# Altium integrated library TI_Logic_Flip-Flop,Latch,Register.IntLib: 2598 symbols (part 11 of 122)
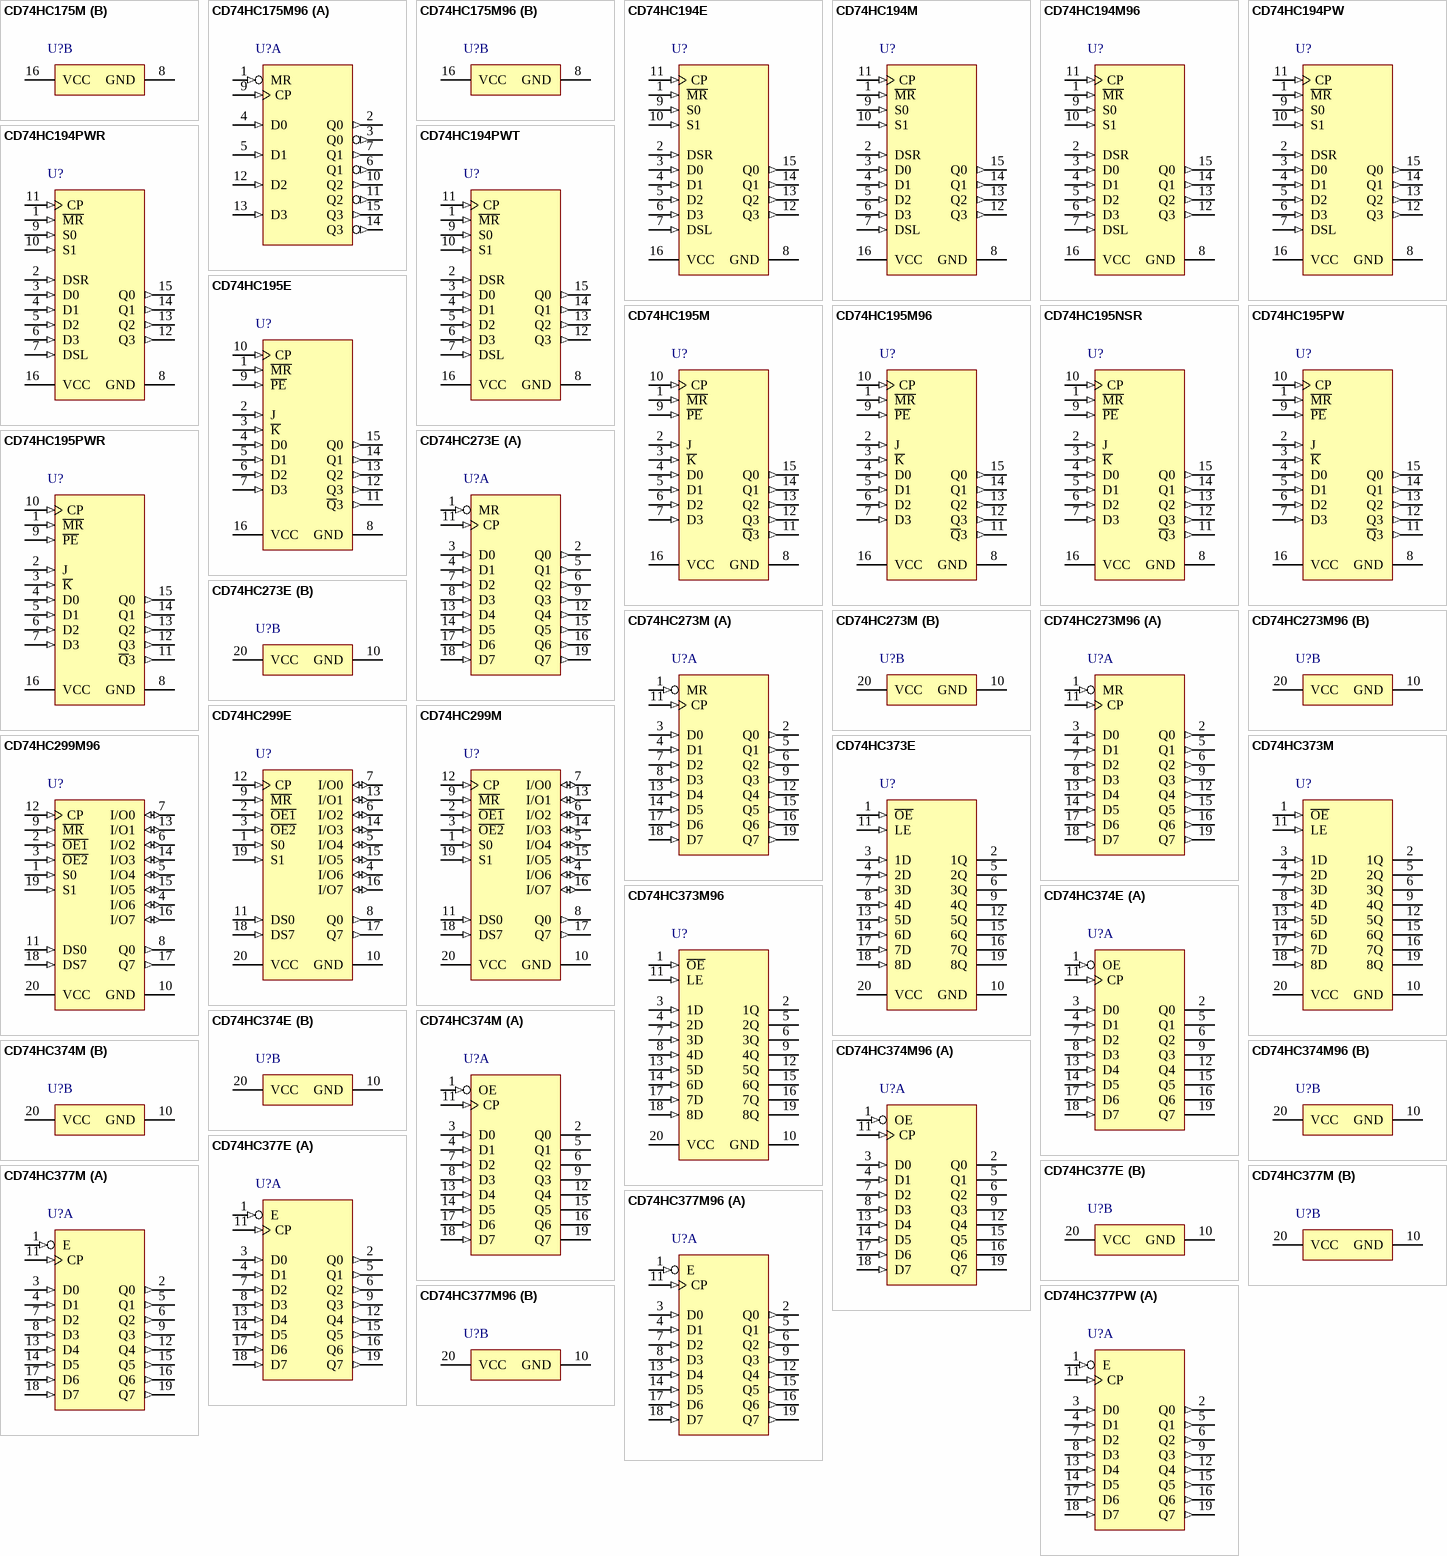
[diagram p149: symbols CD74HC175M to CD74HC377PW]

## CD74HC377M
designator U?
High Speed CMOS Logic Octal D-Type Flip-Flops with Data Enable, DW0020A, TUBE; Generic Part Number: CD74HC377; Manufacturer: Texas Instruments; PartNumber: CD74HC377M; VCC(Min)(V): 2; VCC(Max)(V): 6; ICC @ Nom Voltage(Max)(mA): 0.08; Bits(#): 8; F @ Nom Voltage(Max)(Mhz): 28; Rating: Catalog; Technology Family: HC; Voltage(Nom)(V): 3.3,5; Schmitt Trigger: No; Output Drive (IOL/IOH)(Max)(mA): 5.2/-5.2; Output Logic: Non-inverted; tpd @ Nom Voltage(Max)(ns): 37; DatasheetVersion: SCHS184C; PackageReference: DW0020A; Supplier 1: Digi-Key; Supplier Part Number 1: 296-33077-5-ND; Supplier 2: Farnell; Supplier Part Number 2: 1103166; Supplier 3: Mouser; Supplier Part Number 3: 595-CD74HC377M; Output Type: CMOS; Input Type: CMOS; Operating Temperature Range(C): -55 to 125; 3-State Output: No; Code_JEDEC: MS-013; ComponentLink1Description: Manufacturer URL; ComponentLink1URL: http://www.ti.com/; ComponentLink2Description: Datasheet; ComponentLink2URL: http://www.ti.com/lit/ds/symlink/cd74hc377.pdf; ComponentLink3Description: Package Specification; ComponentLink3URL: http://www.ti.com/lit/ml/mpds173a/mpds173a.pdf
footprint DW0020A_N (SOIC, 20-Leads, Body 13x7.6mm, Pitch 1.27mm, IPC Medium Density)
footprint DW0020A_M (SOIC, 20-Leads, Body 13x7.6mm, Pitch 1.27mm, IPC Low Density)
footprint DW0020A_L (SOIC, 20-Leads, Body 13x7.6mm, Pitch 1.27mm, IPC High Density)
part A pins: 1 E (in), 2 Q0 (out), 3 D0 (in), 4 D1 (in), 5 Q1 (out), 6 Q2 (out), 7 D2 (in), 8 D3 (in), 9 Q3 (out), 11 CP (in), 12 Q4 (out), 13 D4 (in), 14 D5 (in), 15 Q5 (out), 16 Q6 (out), 17 D6 (in), 18 D7 (in), 19 Q7 (out)
part B pins: 10 GND (power), 20 VCC (power)

## CD74HC377M96
designator U?
High Speed CMOS Logic Octal D-Type Flip-Flops with Data Enable, DW0020A, LARGE T&R; Generic Part Number: CD74HC377; Manufacturer: Texas Instruments; PartNumber: CD74HC377M96; VCC(Min)(V): 2; VCC(Max)(V): 6; ICC @ Nom Voltage(Max)(mA): 0.08; Bits(#): 8; F @ Nom Voltage(Max)(Mhz): 28; Rating: Catalog; Technology Family: HC; Voltage(Nom)(V): 3.3,5; Schmitt Trigger: No; Output Drive (IOL/IOH)(Max)(mA): 5.2/-5.2; Output Logic: Non-inverted; tpd @ Nom Voltage(Max)(ns): 37; DatasheetVersion: SCHS184C; PackageReference: DW0020A; Supplier 1: Digi-Key; Supplier Part Number 1: 296-31581-2-ND; Supplier 2: Digi-Key; Supplier Part Number 2: 296-31581-1-ND; Supplier 3: Digi-Key; Supplier Part Number 3: 296-31581-6-ND; Supplier 4: Mouser; Supplier Part Number 4: 595-CD74HC377M96; Output Type: CMOS; Input Type: CMOS; Operating Temperature Range(C): -55 to 125; 3-State Output: No; Code_JEDEC: MS-013; ComponentLink1Description: Manufacturer URL; ComponentLink1URL: http://www.ti.com/; ComponentLink2Description: Datasheet; ComponentLink2URL: http://www.ti.com/lit/ds/symlink/cd74hc377.pdf; ComponentLink3Description: Package Specification; ComponentLink3URL: http://www.ti.com/lit/ml/mpds173a/mpds173a.pdf
footprint DW0020A_N (SOIC, 20-Leads, Body 13x7.6mm, Pitch 1.27mm, IPC Medium Density)
footprint DW0020A_M (SOIC, 20-Leads, Body 13x7.6mm, Pitch 1.27mm, IPC Low Density)
footprint DW0020A_L (SOIC, 20-Leads, Body 13x7.6mm, Pitch 1.27mm, IPC High Density)
part A pins: 1 E (in), 2 Q0 (out), 3 D0 (in), 4 D1 (in), 5 Q1 (out), 6 Q2 (out), 7 D2 (in), 8 D3 (in), 9 Q3 (out), 11 CP (in), 12 Q4 (out), 13 D4 (in), 14 D5 (in), 15 Q5 (out), 16 Q6 (out), 17 D6 (in), 18 D7 (in), 19 Q7 (out)
part B pins: 10 GND (power), 20 VCC (power)

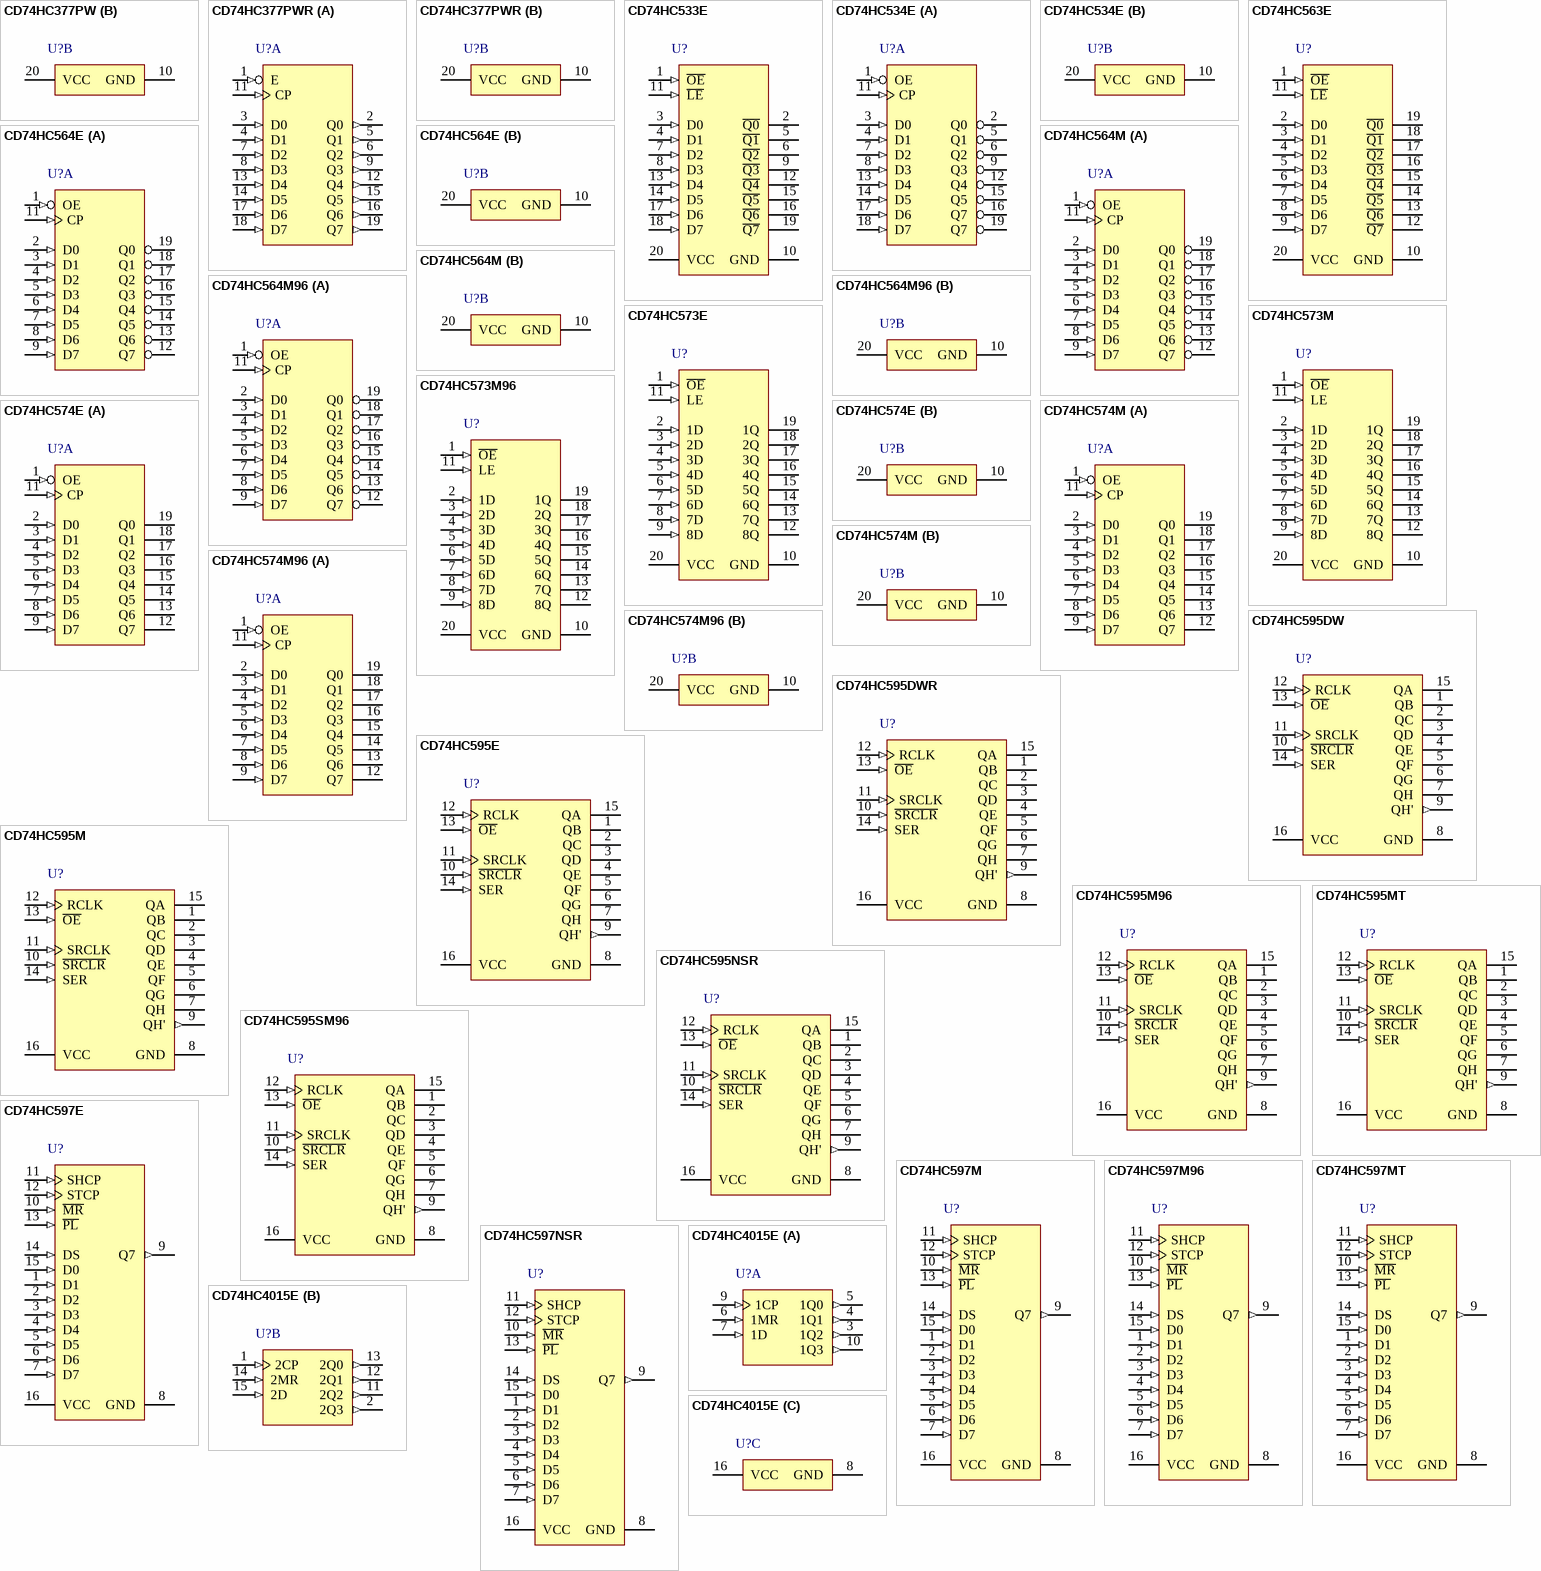
[diagram p15: symbols CD74HC377PW to CD74HC4015E]

## CD74HC377PW
designator U?
High Speed CMOS Logic Octal D-Type Flip-Flops with Data Enable, PW0020A, TUBE; Generic Part Number: CD74HC377; Manufacturer: Texas Instruments; PartNumber: CD74HC377PW; VCC(Min)(V): 2; VCC(Max)(V): 6; ICC @ Nom Voltage(Max)(mA): 0.08; Bits(#): 8; F @ Nom Voltage(Max)(Mhz): 28; Rating: Catalog; Technology Family: HC; Voltage(Nom)(V): 3.3,5; Schmitt Trigger: No; Output Drive (IOL/IOH)(Max)(mA): 5.2/-5.2; Output Logic: Non-inverted; tpd @ Nom Voltage(Max)(ns): 37; DatasheetVersion: SCHS184C; PackageReference: PW0020A; Supplier 1: Digi-Key; Supplier Part Number 1: CD74HC377PW-ND; Supplier 2: Farnell; Supplier Part Number 2: 1752838; Supplier 3: Mouser; Supplier Part Number 3: 595-CD74HC377PW; Output Type: CMOS; Input Type: CMOS; Operating Temperature Range(C): -55 to 125; 3-State Output: No; Code_JEDEC: MO-153; ComponentLink1Description: Manufacturer URL; ComponentLink1URL: http://www.ti.com/; ComponentLink2Description: Datasheet; ComponentLink2URL: http://www.ti.com/lit/ds/symlink/cd74hc377.pdf; ComponentLink3Description: Package Specification; ComponentLink3URL: http://www.ti.com/lit/ml/mpds362/mpds362.pdf
footprint PW0020A_N (SOP, 20-Leads, Body 6.6x4.5mm, Pitch 0.65mm, IPC Medium Density)
footprint PW0020A_M (SOP, 20-Leads, Body 6.6x4.5mm, Pitch 0.65mm, IPC Low Density)
footprint PW0020A_L (SOP, 20-Leads, Body 6.6x4.5mm, Pitch 0.65mm, IPC High Density)
part A pins: 1 E (in), 2 Q0 (out), 3 D0 (in), 4 D1 (in), 5 Q1 (out), 6 Q2 (out), 7 D2 (in), 8 D3 (in), 9 Q3 (out), 11 CP (in), 12 Q4 (out), 13 D4 (in), 14 D5 (in), 15 Q5 (out), 16 Q6 (out), 17 D6 (in), 18 D7 (in), 19 Q7 (out)
part B pins: 10 GND (power), 20 VCC (power)

## CD74HC377PWR
designator U?
High Speed CMOS Logic Octal D-Type Flip-Flops with Data Enable, PW0020A, LARGE T&R; Generic Part Number: CD74HC377; Manufacturer: Texas Instruments; PartNumber: CD74HC377PWR; VCC(Min)(V): 2; VCC(Max)(V): 6; ICC @ Nom Voltage(Max)(mA): 0.08; Bits(#): 8; F @ Nom Voltage(Max)(Mhz): 28; Rating: Catalog; Technology Family: HC; Voltage(Nom)(V): 3.3,5; Schmitt Trigger: No; Output Drive (IOL/IOH)(Max)(mA): 5.2/-5.2; Output Logic: Non-inverted; tpd @ Nom Voltage(Max)(ns): 37; DatasheetVersion: SCHS184C; PackageReference: PW0020A; Supplier 1: Digi-Key; Supplier Part Number 1: 296-31582-2-ND; Supplier 2: Digi-Key; Supplier Part Number 2: 296-31582-1-ND; Supplier 3: Digi-Key; Supplier Part Number 3: 296-31582-6-ND; Supplier 4: Mouser; Supplier Part Number 4: 595-CD74HC377PWR; Output Type: CMOS; Input Type: CMOS; Operating Temperature Range(C): -55 to 125; 3-State Output: No; Code_JEDEC: MO-153; ComponentLink1Description: Manufacturer URL; ComponentLink1URL: http://www.ti.com/; ComponentLink2Description: Datasheet; ComponentLink2URL: http://www.ti.com/lit/ds/symlink/cd74hc377.pdf; ComponentLink3Description: Package Specification; ComponentLink3URL: http://www.ti.com/lit/ml/mpds362/mpds362.pdf
footprint PW0020A_N (SOP, 20-Leads, Body 6.6x4.5mm, Pitch 0.65mm, IPC Medium Density)
footprint PW0020A_M (SOP, 20-Leads, Body 6.6x4.5mm, Pitch 0.65mm, IPC Low Density)
footprint PW0020A_L (SOP, 20-Leads, Body 6.6x4.5mm, Pitch 0.65mm, IPC High Density)
part A pins: 1 E (in), 2 Q0 (out), 3 D0 (in), 4 D1 (in), 5 Q1 (out), 6 Q2 (out), 7 D2 (in), 8 D3 (in), 9 Q3 (out), 11 CP (in), 12 Q4 (out), 13 D4 (in), 14 D5 (in), 15 Q5 (out), 16 Q6 (out), 17 D6 (in), 18 D7 (in), 19 Q7 (out)
part B pins: 10 GND (power), 20 VCC (power)

## CD74HC533E
designator U?
High Speed CMOS Logic Octal Inverting Transparent Latches with 3-State Outputs, N0020A, TUBE; Generic Part Number: CD74HC533; Manufacturer: Texas Instruments; PartNumber: CD74HC533E; VCC(Min)(V): 2; VCC(Max)(V): 6; ICC @ Nom Voltage(Max)(mA): 0.08; Bits(#): 8; F @ Nom Voltage(Max)(Mhz): 28; Rating: Catalog; Technology Family: HC; Schmitt Trigger: No; Output Drive (IOL/IOH)(Max)(mA): 7.8/-7.8; Output Logic: Inverted; 3-State Output: Yes; tpd @ Nom Voltage(Max)(ns): 35; DatasheetVersion: SCHS187C; PackageReference: N0020A; Supplier 1: Digi-Key; Supplier Part Number 1: 296-33105-5-ND; Supplier 2: Newark; Supplier Part Number 2: 06F3146; Supplier 3: Mouser; Supplier Part Number 3: 595-CD74HC533E; Output Type: CMOS; Input Type: CMOS; Operating Temperature Range(C): -55 to 125; Voltage(Nom)(V): 6; Code_JEDEC: MS-001; ComponentLink1Description: Manufacturer URL; ComponentLink1URL: http://www.ti.com/; ComponentLink2Description: Datasheet; ComponentLink2URL: http://www.ti.com/lit/ds/symlink/cd74hc533.pdf; ComponentLink3Description: Package Specification; ComponentLink3URL: http://www.ti.com/lit/ml/mpdi002c/mpdi002c.pdf
footprint N0020A (DIP, 20-Leads, Body 26.9x6.6mm, Pitch 2.54mm)
pins: 1 ~{OE} (in), 2 ~{Q0} (hiz), 3 D0 (in), 4 D1 (in), 5 ~{Q1} (hiz), 6 ~{Q2} (hiz), 7 D2 (in), 8 D3 (in), 9 ~{Q3} (hiz), 10 GND (power), 11 ~{LE} (in), 12 ~{Q4} (hiz), 13 D4 (in), 14 D5 (in), 15 ~{Q5} (hiz), 16 ~{Q6} (hiz), 17 D6 (in), 18 D7 (in), 19 ~{Q7} (hiz), 20 VCC (power)

## CD74HC534E
designator U?
High Speed CMOS Logic Octal Positive-Edge-Triggered Inverting D-Type Flip-Flops with 3-State Outputs, N0020A, TUBE; Generic Part Number: CD74HC534; Manufacturer: Texas Instruments; PartNumber: CD74HC534E; VCC(Min)(V): 2; VCC(Max)(V): 6; ICC @ Nom Voltage(Max)(mA): 0.08; Bits(#): 8; F @ Nom Voltage(Max)(Mhz): 28; Rating: Catalog; Technology Family: HC; Voltage(Nom)(V): 3.3,5; Schmitt Trigger: No; Output Drive (IOL/IOH)(Max)(mA): 7.8/-7.8; Output Logic: Inverted; 3-State Output: Yes; tpd @ Nom Voltage(Max)(ns): 35; DatasheetVersion: SCHS188C; PackageReference: N0020A; Supplier 1: Digi-Key; Supplier Part Number 1: 296-33106-5-ND; Supplier 2: Mouser; Supplier Part Number 2: 595-CD74HC534E; Output Type: CMOS; Input Type: CMOS; Operating Temperature Range(C): -55 to 125; Code_JEDEC: MS-001; ComponentLink1Description: Manufacturer URL; ComponentLink1URL: http://www.ti.com/; ComponentLink2Description: Datasheet; ComponentLink2URL: http://www.ti.com/lit/ds/symlink/cd74hc534.pdf; ComponentLink3Description: Package Specification; ComponentLink3URL: http://www.ti.com/lit/ml/mpdi002c/mpdi002c.pdf
footprint N0020A (DIP, 20-Leads, Body 26.9x6.6mm, Pitch 2.54mm)
part A pins: 1 OE (in), 2 Q0 (hiz), 3 D0 (in), 4 D1 (in), 5 Q1 (hiz), 6 Q2 (hiz), 7 D2 (in), 8 D3 (in), 9 Q3 (hiz), 11 CP (in), 12 Q4 (hiz), 13 D4 (in), 14 D5 (in), 15 Q5 (hiz), 16 Q7 (hiz), 17 D6 (in), 18 D7 (in), 19 Q7 (hiz)
part B pins: 10 GND (power), 20 VCC (power)

## CD74HC563E
designator U?
High Speed CMOS Logic Octal Inverting Transparent Latches with 3-State Outputs, N0020A, TUBE; Generic Part Number: CD74HC563; Manufacturer: Texas Instruments; PartNumber: CD74HC563E; VCC(Min)(V): 2; VCC(Max)(V): 6; ICC @ Nom Voltage(Max)(mA): 0.08; Bits(#): 8; F @ Nom Voltage(Max)(Mhz): 28; Rating: Catalog; Technology Family: HC; Schmitt Trigger: No; Output Drive (IOL/IOH)(Max)(mA): 7.8/-7.8; Output Logic: Inverted; 3-State Output: Yes; tpd @ Nom Voltage(Max)(ns): 37; DatasheetVersion: SCHS187C; PackageReference: N0020A; Supplier 1: Digi-Key; Supplier Part Number 1: 296-33109-5-ND; Supplier 2: Newark; Supplier Part Number 2: 06F3153; Supplier 3: Mouser; Supplier Part Number 3: 595-CD74HC563E; Output Type: CMOS; Input Type: CMOS; Operating Temperature Range(C): -55 to 125; Voltage(Nom)(V): 6; Code_JEDEC: MS-001; ComponentLink1Description: Manufacturer URL; ComponentLink1URL: http://www.ti.com/; ComponentLink2Description: Datasheet; ComponentLink2URL: http://www.ti.com/lit/ds/symlink/cd74hc563.pdf; ComponentLink3Description: Package Specification; ComponentLink3URL: http://www.ti.com/lit/ml/mpdi002c/mpdi002c.pdf
footprint N0020A (DIP, 20-Leads, Body 26.9x6.6mm, Pitch 2.54mm)
pins: 1 ~{OE} (in), 2 D0 (in), 3 D1 (in), 4 D2 (in), 5 D3 (in), 6 D4 (in), 7 D5 (in), 8 D6 (in), 9 D7 (in), 10 GND (power), 11 ~{LE} (in), 12 ~{Q7} (hiz), 13 ~{Q6} (hiz), 14 ~{Q5} (hiz), 15 ~{Q4} (hiz), 16 ~{Q3} (hiz), 17 ~{Q2} (hiz), 18 ~{Q1} (hiz), 19 ~{Q0} (hiz), 20 VCC (power)

## CD74HC564E
designator U?
High Speed CMOS Logic Octal Positive-Edge-Triggered Inverting D-Type Flip-Flops with 3-State Outputs, N0020A, TUBE; Generic Part Number: CD74HC564; Manufacturer: Texas Instruments; PartNumber: CD74HC564E; VCC(Min)(V): 2; VCC(Max)(V): 6; ICC @ Nom Voltage(Max)(mA): 0.08; Bits(#): 8; F @ Nom Voltage(Max)(Mhz): 28; Rating: Catalog; Technology Family: HC; Voltage(Nom)(V): 3.3,5; Schmitt Trigger: No; Output Drive (IOL/IOH)(Max)(mA): 7.8/-7.8; Output Logic: Inverted; 3-State Output: Yes; tpd @ Nom Voltage(Max)(ns): 35; DatasheetVersion: SCHS188C; PackageReference: N0020A; Supplier 1: Digi-Key; Supplier Part Number 1: 296-26009-5-ND; Supplier 2: Newark; Supplier Part Number 2: 06F3154; Supplier 3: Mouser; Supplier Part Number 3: 595-CD74HC564E; Output Type: CMOS; Input Type: CMOS; Operating Temperature Range(C): -55 to 125; Code_JEDEC: MS-001; ComponentLink1Description: Manufacturer URL; ComponentLink1URL: http://www.ti.com/; ComponentLink2Description: Datasheet; ComponentLink2URL: http://www.ti.com/lit/ds/symlink/cd74hc564.pdf; ComponentLink3Description: Package Specification; ComponentLink3URL: http://www.ti.com/lit/ml/mpdi002c/mpdi002c.pdf
footprint N0020A (DIP, 20-Leads, Body 26.9x6.6mm, Pitch 2.54mm)
part A pins: 1 OE (in), 2 D0 (in), 3 D1 (in), 4 D2 (in), 5 D3 (in), 6 D4 (in), 7 D5 (in), 8 D6 (in), 9 D7 (in), 11 CP (in), 12 Q7 (hiz), 13 Q6 (hiz), 14 Q5 (hiz), 15 Q4 (hiz), 16 Q3 (hiz), 17 Q2 (hiz), 18 Q1 (hiz), 19 Q0 (hiz)
part B pins: 10 GND (power), 20 VCC (power)

## CD74HC564M
designator U?
High Speed CMOS Logic Octal Positive-Edge-Triggered Inverting D-Type Flip-Flops with 3-State Outputs, DW0020A, TUBE; Generic Part Number: CD74HC564; Manufacturer: Texas Instruments; PartNumber: CD74HC564M; VCC(Min)(V): 2; VCC(Max)(V): 6; ICC @ Nom Voltage(Max)(mA): 0.08; Bits(#): 8; F @ Nom Voltage(Max)(Mhz): 28; Rating: Catalog; Technology Family: HC; Voltage(Nom)(V): 3.3,5; Schmitt Trigger: No; Output Drive (IOL/IOH)(Max)(mA): 7.8/-7.8; Output Logic: Inverted; 3-State Output: Yes; tpd @ Nom Voltage(Max)(ns): 35; DatasheetVersion: SCHS188C; PackageReference: DW0020A; Supplier 1: Digi-Key; Supplier Part Number 1: 296-33110-5-ND; Supplier 2: Newark; Supplier Part Number 2: 66F5426; Supplier 3: Mouser; Supplier Part Number 3: 595-CD74HC564M; Output Type: CMOS; Input Type: CMOS; Operating Temperature Range(C): -55 to 125; Code_JEDEC: MS-013; ComponentLink1Description: Manufacturer URL; ComponentLink1URL: http://www.ti.com/; ComponentLink2Description: Datasheet; ComponentLink2URL: http://www.ti.com/lit/ds/symlink/cd74hc564.pdf; ComponentLink3Description: Package Specification; ComponentLink3URL: http://www.ti.com/lit/ml/mpds173a/mpds173a.pdf
footprint DW0020A_N (SOIC, 20-Leads, Body 13x7.6mm, Pitch 1.27mm, IPC Medium Density)
footprint DW0020A_M (SOIC, 20-Leads, Body 13x7.6mm, Pitch 1.27mm, IPC Low Density)
footprint DW0020A_L (SOIC, 20-Leads, Body 13x7.6mm, Pitch 1.27mm, IPC High Density)
part A pins: 1 OE (in), 2 D0 (in), 3 D1 (in), 4 D2 (in), 5 D3 (in), 6 D4 (in), 7 D5 (in), 8 D6 (in), 9 D7 (in), 11 CP (in), 12 Q7 (hiz), 13 Q6 (hiz), 14 Q5 (hiz), 15 Q4 (hiz), 16 Q3 (hiz), 17 Q2 (hiz), 18 Q1 (hiz), 19 Q0 (hiz)
part B pins: 10 GND (power), 20 VCC (power)

## CD74HC564M96
designator U?
High Speed CMOS Logic Octal Positive-Edge-Triggered Inverting D-Type Flip-Flops with 3-State Outputs, DW0020A, LARGE T&R; Generic Part Number: CD74HC564; Manufacturer: Texas Instruments; PartNumber: CD74HC564M96; VCC(Min)(V): 2; VCC(Max)(V): 6; ICC @ Nom Voltage(Max)(mA): 0.08; Bits(#): 8; F @ Nom Voltage(Max)(Mhz): 28; Rating: Catalog; Technology Family: HC; Voltage(Nom)(V): 3.3,5; Schmitt Trigger: No; Output Drive (IOL/IOH)(Max)(mA): 7.8/-7.8; Output Logic: Inverted; 3-State Output: Yes; tpd @ Nom Voltage(Max)(ns): 35; DatasheetVersion: SCHS188C; PackageReference: DW0020A; Supplier 1: Digi-Key; Supplier Part Number 1: 296-31600-2-ND; Supplier 2: Digi-Key; Supplier Part Number 2: 296-31600-1-ND; Supplier 3: Digi-Key; Supplier Part Number 3: 296-31600-6-ND; Supplier 4: Mouser; Supplier Part Number 4: 595-CD74HC564M96; Output Type: CMOS; Input Type: CMOS; Operating Temperature Range(C): -55 to 125; Code_JEDEC: MS-013; ComponentLink1Description: Manufacturer URL; ComponentLink1URL: http://www.ti.com/; ComponentLink2Description: Datasheet; ComponentLink2URL: http://www.ti.com/lit/ds/symlink/cd74hc564.pdf; ComponentLink3Description: Package Specification; ComponentLink3URL: http://www.ti.com/lit/ml/mpds173a/mpds173a.pdf
footprint DW0020A_N (SOIC, 20-Leads, Body 13x7.6mm, Pitch 1.27mm, IPC Medium Density)
footprint DW0020A_M (SOIC, 20-Leads, Body 13x7.6mm, Pitch 1.27mm, IPC Low Density)
footprint DW0020A_L (SOIC, 20-Leads, Body 13x7.6mm, Pitch 1.27mm, IPC High Density)
part A pins: 1 OE (in), 2 D0 (in), 3 D1 (in), 4 D2 (in), 5 D3 (in), 6 D4 (in), 7 D5 (in), 8 D6 (in), 9 D7 (in), 11 CP (in), 12 Q7 (hiz), 13 Q6 (hiz), 14 Q5 (hiz), 15 Q4 (hiz), 16 Q3 (hiz), 17 Q2 (hiz), 18 Q1 (hiz), 19 Q0 (hiz)
part B pins: 10 GND (power), 20 VCC (power)

## CD74HC573E
designator U?
High Speed CMOS Logic Octal Transparent Latches with 3-State Outputs, N0020A, TUBE; Generic Part Number: CD74HC573; Manufacturer: Texas Instruments; PartNumber: CD74HC573E; VCC(Min)(V): 2; VCC(Max)(V): 6; ICC @ Nom Voltage(Max)(mA): 0.08; Bits(#): 8; F @ Nom Voltage(Max)(Mhz): 28; Rating: Catalog; Technology Family: HC; Schmitt Trigger: No; Output Drive (IOL/IOH)(Max)(mA): 7.8/-7.8; Output Logic: Inverted; 3-State Output: Yes; tpd @ Nom Voltage(Max)(ns): 37; DatasheetVersion: SCLS454A; PackageReference: N0020A; Supplier 1: Digi-Key; Supplier Part Number 1: 296-12815-5-ND; Supplier 2: Farnell; Supplier Part Number 2: 2407136; Supplier 3: Newark; Supplier Part Number 3: 67K0157; Supplier 4: Mouser; Supplier Part Number 4: 595-CD74HC573E; Output Type: CMOS; Input Type: CMOS; Operating Temperature Range(C): -55 to 125; Voltage(Nom)(V): 6; Code_JEDEC: MS-001; ComponentLink1Description: Manufacturer URL; ComponentLink1URL: http://www.ti.com/; ComponentLink2Description: Datasheet; ComponentLink2URL: http://www.ti.com/lit/ds/symlink/cd74hc573.pdf; ComponentLink3Description: Package Specification; ComponentLink3URL: http://www.ti.com/lit/ml/mpdi002c/mpdi002c.pdf
footprint N0020A (DIP, 20-Leads, Body 26.9x6.6mm, Pitch 2.54mm)
pins: 1 ~{OE} (in), 2 1D (in), 3 2D (in), 4 3D (in), 5 4D (in), 6 5D (in), 7 6D (in), 8 7D (in), 9 8D (in), 10 GND (power), 11 LE (in), 12 8Q (hiz), 13 7Q (hiz), 14 6Q (hiz), 15 5Q (hiz), 16 4Q (hiz), 17 3Q (hiz), 18 2Q (hiz), 19 1Q (hiz), 20 VCC (power)

## CD74HC573M
designator U?
High Speed CMOS Logic Octal Transparent Latches with 3-State Outputs, DW0020A, TUBE; Generic Part Number: CD74HC573; Manufacturer: Texas Instruments; PartNumber: CD74HC573M; VCC(Min)(V): 2; VCC(Max)(V): 6; ICC @ Nom Voltage(Max)(mA): 0.08; Bits(#): 8; F @ Nom Voltage(Max)(Mhz): 28; Rating: Catalog; Technology Family: HC; Schmitt Trigger: No; Output Drive (IOL/IOH)(Max)(mA): 7.8/-7.8; Output Logic: Inverted; 3-State Output: Yes; tpd @ Nom Voltage(Max)(ns): 37; DatasheetVersion: SCLS454A; PackageReference: DW0020A; Supplier 1: Digi-Key; Supplier Part Number 1: 296-26010-5-ND; Supplier 2: Farnell; Supplier Part Number 2: 9589384; Supplier 3: Newark; Supplier Part Number 3: 34K2418; Supplier 4: Mouser; Supplier Part Number 4: 595-CD74HC573M; Output Type: CMOS; Input Type: CMOS; Operating Temperature Range(C): -55 to 125; Voltage(Nom)(V): 6; Code_JEDEC: MS-013; ComponentLink1Description: Manufacturer URL; ComponentLink1URL: http://www.ti.com/; ComponentLink2Description: Datasheet; ComponentLink2URL: http://www.ti.com/lit/ds/symlink/cd74hc573.pdf; ComponentLink3Description: Package Specification; ComponentLink3URL: http://www.ti.com/lit/ml/mpds173a/mpds173a.pdf
footprint DW0020A_N (SOIC, 20-Leads, Body 13x7.6mm, Pitch 1.27mm, IPC Medium Density)
footprint DW0020A_M (SOIC, 20-Leads, Body 13x7.6mm, Pitch 1.27mm, IPC Low Density)
footprint DW0020A_L (SOIC, 20-Leads, Body 13x7.6mm, Pitch 1.27mm, IPC High Density)
pins: 1 ~{OE} (in), 2 1D (in), 3 2D (in), 4 3D (in), 5 4D (in), 6 5D (in), 7 6D (in), 8 7D (in), 9 8D (in), 10 GND (power), 11 LE (in), 12 8Q (hiz), 13 7Q (hiz), 14 6Q (hiz), 15 5Q (hiz), 16 4Q (hiz), 17 3Q (hiz), 18 2Q (hiz), 19 1Q (hiz), 20 VCC (power)

## CD74HC573M96
designator U?
High Speed CMOS Logic Octal Transparent Latches with 3-State Outputs, DW0020A, LARGE T&R; Generic Part Number: CD74HC573; Manufacturer: Texas Instruments; PartNumber: CD74HC573M96; VCC(Min)(V): 2; VCC(Max)(V): 6; ICC @ Nom Voltage(Max)(mA): 0.08; Bits(#): 8; F @ Nom Voltage(Max)(Mhz): 28; Rating: Catalog; Technology Family: HC; Schmitt Trigger: No; Output Drive (IOL/IOH)(Max)(mA): 7.8/-7.8; Output Logic: Inverted; 3-State Output: Yes; tpd @ Nom Voltage(Max)(ns): 37; DatasheetVersion: SCLS454A; PackageReference: DW0020A; Supplier 1: Digi-Key; Supplier Part Number 1: 296-12816-2-ND; Supplier 2: Digi-Key; Supplier Part Number 2: 296-12816-1-ND; Supplier 3: Digi-Key; Supplier Part Number 3: 296-12816-6-ND; Supplier 4: Farnell; Supplier Part Number 4: 2407137; Supplier 5: Farnell; Supplier Part Number 5: 2407137RL; Supplier 6: Newark; Supplier Part Number 6: 83X7080; Supplier 7: Mouser; Supplier Part Number 7: 595-CD74HC573M96; Output Type: CMOS; Input Type: CMOS; Operating Temperature Range(C): -55 to 125; Voltage(Nom)(V): 6; Code_JEDEC: MS-013; ComponentLink1Description: Manufacturer URL; ComponentLink1URL: http://www.ti.com/; ComponentLink2Description: Datasheet; ComponentLink2URL: http://www.ti.com/lit/ds/symlink/cd74hc573.pdf; ComponentLink3Description: Package Specification; ComponentLink3URL: http://www.ti.com/lit/ml/mpds173a/mpds173a.pdf
footprint DW0020A_N (SOIC, 20-Leads, Body 13x7.6mm, Pitch 1.27mm, IPC Medium Density)
footprint DW0020A_M (SOIC, 20-Leads, Body 13x7.6mm, Pitch 1.27mm, IPC Low Density)
footprint DW0020A_L (SOIC, 20-Leads, Body 13x7.6mm, Pitch 1.27mm, IPC High Density)
pins: 1 ~{OE} (in), 2 1D (in), 3 2D (in), 4 3D (in), 5 4D (in), 6 5D (in), 7 6D (in), 8 7D (in), 9 8D (in), 10 GND (power), 11 LE (in), 12 8Q (hiz), 13 7Q (hiz), 14 6Q (hiz), 15 5Q (hiz), 16 4Q (hiz), 17 3Q (hiz), 18 2Q (hiz), 19 1Q (hiz), 20 VCC (power)

## CD74HC574E
designator U?
High Speed CMOS Logic Octal Positive-Edge-Triggered D-Type Flip-Flops with 3-State Outputs, N0020A, TUBE; Generic Part Number: CD74HC574; Manufacturer: Texas Instruments; PartNumber: CD74HC574E; VCC(Min)(V): 2; VCC(Max)(V): 6; ICC @ Nom Voltage(Max)(mA): 0.08; Bits(#): 8; F @ Nom Voltage(Max)(Mhz): 28; Rating: Catalog; Technology Family: HC; Voltage(Nom)(V): 3.3,5; Schmitt Trigger: No; Output Drive (IOL/IOH)(Max)(mA): 7.8/-7.8; Output Logic: Non-inverted; 3-State Output: Yes; tpd @ Nom Voltage(Max)(ns): 38; DatasheetVersion: SCHS183C; PackageReference: N0020A; Supplier 1: Digi-Key; Supplier Part Number 1: 296-12817-5-ND; Supplier 2: Farnell; Supplier Part Number 2: 1739845; Supplier 3: Newark; Supplier Part Number 3: 67K0158; Supplier 4: Mouser; Supplier Part Number 4: 595-CD74HC574E; Output Type: CMOS; Input Type: CMOS; Operating Temperature Range(C): -55 to 125; Code_JEDEC: MS-001; ComponentLink1Description: Manufacturer URL; ComponentLink1URL: http://www.ti.com/; ComponentLink2Description: Datasheet; ComponentLink2URL: http://www.ti.com/lit/ds/symlink/cd74hc574.pdf; ComponentLink3Description: Package Specification; ComponentLink3URL: http://www.ti.com/lit/ml/mpdi002c/mpdi002c.pdf
footprint N0020A (DIP, 20-Leads, Body 26.9x6.6mm, Pitch 2.54mm)
part A pins: 1 OE (in), 2 D0 (in), 3 D1 (in), 4 D2 (in), 5 D3 (in), 6 D4 (in), 7 D5 (in), 8 D6 (in), 9 D7 (in), 11 CP (in), 12 Q7 (hiz), 13 Q6 (hiz), 14 Q5 (hiz), 15 Q4 (hiz), 16 Q3 (hiz), 17 Q2 (hiz), 18 Q1 (hiz), 19 Q0 (hiz)
part B pins: 10 GND (power), 20 VCC (power)

## CD74HC574M
designator U?
High Speed CMOS Logic Octal Positive-Edge-Triggered D-Type Flip-Flops with 3-State Outputs, DW0020A, TUBE; Generic Part Number: CD74HC574; Manufacturer: Texas Instruments; PartNumber: CD74HC574M; VCC(Min)(V): 2; VCC(Max)(V): 6; ICC @ Nom Voltage(Max)(mA): 0.08; Bits(#): 8; F @ Nom Voltage(Max)(Mhz): 28; Rating: Catalog; Technology Family: HC; Voltage(Nom)(V): 3.3,5; Schmitt Trigger: No; Output Drive (IOL/IOH)(Max)(mA): 7.8/-7.8; Output Logic: Non-inverted; 3-State Output: Yes; tpd @ Nom Voltage(Max)(ns): 38; DatasheetVersion: SCHS183C; PackageReference: DW0020A; Supplier 1: Digi-Key; Supplier Part Number 1: 296-12818-5-ND; Supplier 2: Farnell; Supplier Part Number 2: 1103174; Supplier 3: Newark; Supplier Part Number 3: 25M8644; Supplier 4: Mouser; Supplier Part Number 4: 595-CD74HC574M; Output Type: CMOS; Input Type: CMOS; Operating Temperature Range(C): -55 to 125; Code_JEDEC: MS-013; ComponentLink1Description: Manufacturer URL; ComponentLink1URL: http://www.ti.com/; ComponentLink2Description: Datasheet; ComponentLink2URL: http://www.ti.com/lit/ds/symlink/cd74hc574.pdf; ComponentLink3Description: Package Specification; ComponentLink3URL: http://www.ti.com/lit/ml/mpds173a/mpds173a.pdf
footprint DW0020A_N (SOIC, 20-Leads, Body 13x7.6mm, Pitch 1.27mm, IPC Medium Density)
footprint DW0020A_M (SOIC, 20-Leads, Body 13x7.6mm, Pitch 1.27mm, IPC Low Density)
footprint DW0020A_L (SOIC, 20-Leads, Body 13x7.6mm, Pitch 1.27mm, IPC High Density)
part A pins: 1 OE (in), 2 D0 (in), 3 D1 (in), 4 D2 (in), 5 D3 (in), 6 D4 (in), 7 D5 (in), 8 D6 (in), 9 D7 (in), 11 CP (in), 12 Q7 (hiz), 13 Q6 (hiz), 14 Q5 (hiz), 15 Q4 (hiz), 16 Q3 (hiz), 17 Q2 (hiz), 18 Q1 (hiz), 19 Q0 (hiz)
part B pins: 10 GND (power), 20 VCC (power)

## CD74HC574M96
designator U?
High Speed CMOS Logic Octal Positive-Edge-Triggered D-Type Flip-Flops with 3-State Outputs, DW0020A, LARGE T&R; Generic Part Number: CD74HC574; Manufacturer: Texas Instruments; PartNumber: CD74HC574M96; VCC(Min)(V): 2; VCC(Max)(V): 6; ICC @ Nom Voltage(Max)(mA): 0.08; Bits(#): 8; F @ Nom Voltage(Max)(Mhz): 28; Rating: Catalog; Technology Family: HC; Voltage(Nom)(V): 3.3,5; Schmitt Trigger: No; Output Drive (IOL/IOH)(Max)(mA): 7.8/-7.8; Output Logic: Non-inverted; 3-State Output: Yes; tpd @ Nom Voltage(Max)(ns): 38; DatasheetVersion: SCHS183C; PackageReference: DW0020A; Supplier 1: Digi-Key; Supplier Part Number 1: 296-31601-2-ND; Supplier 2: Digi-Key; Supplier Part Number 2: 296-31601-1-ND; Supplier 3: Digi-Key; Supplier Part Number 3: 296-31601-6-ND; Supplier 4: Newark; Supplier Part Number 4: 05B6174; Supplier 5: Mouser; Supplier Part Number 5: 595-CD74HC574M96; Output Type: CMOS; Input Type: CMOS; Operating Temperature Range(C): -55 to 125; Code_JEDEC: MS-013; ComponentLink1Description: Manufacturer URL; ComponentLink1URL: http://www.ti.com/; ComponentLink2Description: Datasheet; ComponentLink2URL: http://www.ti.com/lit/ds/symlink/cd74hc574.pdf; ComponentLink3Description: Package Specification; ComponentLink3URL: http://www.ti.com/lit/ml/mpds173a/mpds173a.pdf
footprint DW0020A_N (SOIC, 20-Leads, Body 13x7.6mm, Pitch 1.27mm, IPC Medium Density)
footprint DW0020A_M (SOIC, 20-Leads, Body 13x7.6mm, Pitch 1.27mm, IPC Low Density)
footprint DW0020A_L (SOIC, 20-Leads, Body 13x7.6mm, Pitch 1.27mm, IPC High Density)
part A pins: 1 OE (in), 2 D0 (in), 3 D1 (in), 4 D2 (in), 5 D3 (in), 6 D4 (in), 7 D5 (in), 8 D6 (in), 9 D7 (in), 11 CP (in), 12 Q7 (hiz), 13 Q6 (hiz), 14 Q5 (hiz), 15 Q4 (hiz), 16 Q3 (hiz), 17 Q2 (hiz), 18 Q1 (hiz), 19 Q0 (hiz)
part B pins: 10 GND (power), 20 VCC (power)

## CD74HC595DW
designator U?
8-Bit Shift Registers With 3-State Output Registers, DW0016A, TUBE; Generic Part Number: CD74HC595; Manufacturer: Texas Instruments; PartNumber: CD74HC595DW; Technology Family: HC; VCC(Min)(V): 2; VCC(Max)(V): 6; No. of Outputs: 9; F @ Nom Voltage(Max)(Mhz): 28; ICC @ Nom Voltage(Max)(mA): 0.08; tpd @ Nom Voltage(Max)(ns): 41; Output Drive (IOL/IOH)(Max)(mA): 7.8/-7.8; Input Type: CMOS; 3-State Output: Yes; Rating: Catalog; Bits: 8; DatasheetVersion: SCHS353; PackageReference: DW0016A; Voltage(Nom)(V): 6; Output Type: CMOS; Operating Temperature Range(C): -55 to 125; Code_JEDEC: MS-013 variation AA; ComponentLink1Description: Manufacturer URL; ComponentLink1URL: http://www.ti.com/; ComponentLink2Description: Datasheet; ComponentLink2URL: http://www.ti.com/lit/ds/symlink/cd74hc595.pdf; ComponentLink3Description: Package Specification; ComponentLink3URL: http://www.ti.com/lit/ml/msoi003g/msoi003g.pdf
footprint DW0016A_N (SOIC, 16-Leads, Body 10.5x7.6mm, Pitch 1.27mm, IPC Medium Density)
footprint DW0016A_M (SOIC, 16-Leads, Body 10.5x7.6mm, Pitch 1.27mm, IPC Low Density)
footprint DW0016A_L (SOIC, 16-Leads, Body 10.5x7.6mm, Pitch 1.27mm, IPC High Density)
pins: 1 QB (hiz), 2 QC (hiz), 3 QD (hiz), 4 QE (hiz), 5 QF (hiz), 6 QG (hiz), 7 QH (hiz), 8 GND (power), 9 QH' (out), 10 ~{SRCLR} (in), 11 SRCLK (in), 12 RCLK (in), 13 ~{OE} (in), 14 SER (in), 15 QA (hiz), 16 VCC (power)

## CD74HC595DWR
designator U?
8-Bit Shift Registers With 3-State Output Registers, DW0016A, LARGE T&R; Generic Part Number: CD74HC595; Manufacturer: Texas Instruments; PartNumber: CD74HC595DWR; Technology Family: HC; VCC(Min)(V): 2; VCC(Max)(V): 6; No. of Outputs: 9; F @ Nom Voltage(Max)(Mhz): 28; ICC @ Nom Voltage(Max)(mA): 0.08; tpd @ Nom Voltage(Max)(ns): 41; Output Drive (IOL/IOH)(Max)(mA): 7.8/-7.8; Input Type: CMOS; 3-State Output: Yes; Rating: Catalog; DatasheetVersion: SCHS353; PackageReference: DW0016A; Voltage(Nom)(V): 6; Output Type: CMOS; Operating Temperature Range(C): -55 to 125; Code_JEDEC: MS-013 variation AA; ComponentLink1Description: Manufacturer URL; ComponentLink1URL: http://www.ti.com/; ComponentLink2Description: Datasheet; ComponentLink2URL: http://www.ti.com/lit/ds/symlink/cd74hc595.pdf; ComponentLink3Description: Package Specification; ComponentLink3URL: http://www.ti.com/lit/ml/msoi003g/msoi003g.pdf
footprint DW0016A_N (SOIC, 16-Leads, Body 10.5x7.6mm, Pitch 1.27mm, IPC Medium Density)
footprint DW0016A_M (SOIC, 16-Leads, Body 10.5x7.6mm, Pitch 1.27mm, IPC Low Density)
footprint DW0016A_L (SOIC, 16-Leads, Body 10.5x7.6mm, Pitch 1.27mm, IPC High Density)
pins: 1 QB (hiz), 2 QC (hiz), 3 QD (hiz), 4 QE (hiz), 5 QF (hiz), 6 QG (hiz), 7 QH (hiz), 8 GND (power), 9 QH' (out), 10 ~{SRCLR} (in), 11 SRCLK (in), 12 RCLK (in), 13 ~{OE} (in), 14 SER (in), 15 QA (hiz), 16 VCC (power)

## CD74HC595E
designator U?
8-Bit Shift Registers With 3-State Output Registers, N0016A, TUBE; Generic Part Number: CD74HC595; Manufacturer: Texas Instruments; PartNumber: CD74HC595E; Technology Family: HC; VCC(Min)(V): 2; VCC(Max)(V): 6; No. of Outputs: 9; F @ Nom Voltage(Max)(Mhz): 28; ICC @ Nom Voltage(Max)(mA): 0.08; tpd @ Nom Voltage(Max)(ns): 41; Output Drive (IOL/IOH)(Max)(mA): 7.8/-7.8; Input Type: CMOS; 3-State Output: Yes; Rating: Catalog; Bits: 8; DatasheetVersion: SCHS353; PackageReference: N0016A; Voltage(Nom)(V): 6; Output Type: CMOS; Operating Temperature Range(C): -55 to 125; Code_JEDEC: MS-001; ComponentLink1Description: Manufacturer URL; ComponentLink1URL: http://www.ti.com/; ComponentLink2Description: Datasheet; ComponentLink2URL: http://www.ti.com/lit/ds/symlink/cd74hc595.pdf; ComponentLink3Description: Package Specification; ComponentLink3URL: http://www.ti.com/lit/ml/mpdi002c/mpdi002c.pdf
footprint N0016A (DIP, 16-Leads, Body 19.7x6.6mm, Pitch 2.54mm)
pins: 1 QB (hiz) "QB Output", 2 QC (hiz) "QC Output", 3 QD (hiz) "QD Output", 4 QE (hiz) "QE Output", 5 QF (hiz) "QF Output", 6 QG (hiz) "QG Output", 7 QH (hiz) "QH Output", 8 GND (power) "Ground Pin", 9 QH' (out) "QH' Output", 10 ~{SRCLR} (in) "S\R\C\L\R\ Input", 11 SRCLK (in) "SRCLK Input", 12 RCLK (in) "RCLK Input", 13 ~{OE} (in) "Output Enable Pin", 14 SER (in) "SER Input", 15 QA (hiz) "QA Output", 16 VCC (power) "Power Pin"

## CD74HC595M
designator U?
8-Bit Shift Registers With 3-State Output Registers, D0016A, TUBE; Generic Part Number: CD74HC595; Manufacturer: Texas Instruments; PartNumber: CD74HC595M; Technology Family: HC; VCC(Min)(V): 2; VCC(Max)(V): 6; No. of Outputs: 9; F @ Nom Voltage(Max)(Mhz): 28; ICC @ Nom Voltage(Max)(mA): 0.08; tpd @ Nom Voltage(Max)(ns): 41; Output Drive (IOL/IOH)(Max)(mA): 7.8/-7.8; Input Type: CMOS; 3-State Output: Yes; Rating: Catalog; Bits: 8; DatasheetVersion: SCHS353; PackageReference: D0016A; Voltage(Nom)(V): 6; Output Type: CMOS; Operating Temperature Range(C): -55 to 125; Code_JEDEC: MS-012 variation AC; ComponentLink1Description: Manufacturer URL; ComponentLink1URL: http://www.ti.com/; ComponentLink2Description: Datasheet; ComponentLink2URL: http://www.ti.com/lit/ds/symlink/cd74hc595.pdf; ComponentLink3Description: Package Specification; ComponentLink3URL: http://www.ti.com/lit/ml/mpds178g/mpds178g.pdf
footprint D0016A_N (SOIC, 16-Leads, Body 10x4mm, Pitch 1.27mm, IPC Medium Density)
footprint D0016A_M (SOIC, 16-Leads, Body 10x4mm, Pitch 1.27mm, IPC Low Density)
footprint D0016A_L (SOIC, 16-Leads, Body 10x4mm, Pitch 1.27mm, IPC High Density)
pins: 1 QB (hiz), 2 QC (hiz), 3 QD (hiz), 4 QE (hiz), 5 QF (hiz), 6 QG (hiz), 7 QH (hiz), 8 GND (power), 9 QH' (out), 10 ~{SRCLR} (in), 11 SRCLK (in), 12 RCLK (in), 13 ~{OE} (in), 14 SER (in), 15 QA (hiz), 16 VCC (power)

## CD74HC595M96
designator U?
8-Bit Shift Registers With 3-State Output Registers, D0016A, LARGE T&R; Generic Part Number: CD74HC595; Manufacturer: Texas Instruments; PartNumber: CD74HC595M96; Technology Family: HC; VCC(Min)(V): 2; VCC(Max)(V): 6; No. of Outputs: 9; F @ Nom Voltage(Max)(Mhz): 28; ICC @ Nom Voltage(Max)(mA): 0.08; tpd @ Nom Voltage(Max)(ns): 41; Output Drive (IOL/IOH)(Max)(mA): 7.8/-7.8; Input Type: CMOS; 3-State Output: Yes; Rating: Catalog; Bits: 8; DatasheetVersion: SCHS353; PackageReference: D0016A; Voltage(Nom)(V): 6; Output Type: CMOS; Operating Temperature Range(C): -55 to 125; Code_JEDEC: MS-012 variation AC; ComponentLink1Description: Manufacturer URL; ComponentLink1URL: http://www.ti.com/; ComponentLink2Description: Datasheet; ComponentLink2URL: http://www.ti.com/lit/ds/symlink/cd74hc595.pdf; ComponentLink3Description: Package Specification; ComponentLink3URL: http://www.ti.com/lit/ml/mpds178g/mpds178g.pdf
footprint D0016A_N (SOIC, 16-Leads, Body 10x4mm, Pitch 1.27mm, IPC Medium Density)
footprint D0016A_M (SOIC, 16-Leads, Body 10x4mm, Pitch 1.27mm, IPC Low Density)
footprint D0016A_L (SOIC, 16-Leads, Body 10x4mm, Pitch 1.27mm, IPC High Density)
pins: 1 QB (hiz), 2 QC (hiz), 3 QD (hiz), 4 QE (hiz), 5 QF (hiz), 6 QG (hiz), 7 QH (hiz), 8 GND (power), 9 QH' (out), 10 ~{SRCLR} (in), 11 SRCLK (in), 12 RCLK (in), 13 ~{OE} (in), 14 SER (in), 15 QA (hiz), 16 VCC (power)

## CD74HC595MT
designator U?
8-Bit Shift Registers With 3-State Output Registers, D0016A, SMALL T&R; Generic Part Number: CD74HC595; Manufacturer: Texas Instruments; PartNumber: CD74HC595MT; Technology Family: HC; VCC(Min)(V): 2; VCC(Max)(V): 6; No. of Outputs: 9; F @ Nom Voltage(Max)(Mhz): 28; ICC @ Nom Voltage(Max)(mA): 0.08; tpd @ Nom Voltage(Max)(ns): 41; Output Drive (IOL/IOH)(Max)(mA): 7.8/-7.8; Input Type: CMOS; 3-State Output: Yes; Rating: Catalog; Bits: 8; DatasheetVersion: SCHS353; PackageReference: D0016A; Voltage(Nom)(V): 6; Output Type: CMOS; Operating Temperature Range(C): -55 to 125; Code_JEDEC: MS-012 variation AC; ComponentLink1Description: Manufacturer URL; ComponentLink1URL: http://www.ti.com/; ComponentLink2Description: Datasheet; ComponentLink2URL: http://www.ti.com/lit/ds/symlink/cd74hc595.pdf; ComponentLink3Description: Package Specification; ComponentLink3URL: http://www.ti.com/lit/ml/mpds178g/mpds178g.pdf
footprint D0016A_N (SOIC, 16-Leads, Body 10x4mm, Pitch 1.27mm, IPC Medium Density)
footprint D0016A_M (SOIC, 16-Leads, Body 10x4mm, Pitch 1.27mm, IPC Low Density)
footprint D0016A_L (SOIC, 16-Leads, Body 10x4mm, Pitch 1.27mm, IPC High Density)
pins: 1 QB (hiz), 2 QC (hiz), 3 QD (hiz), 4 QE (hiz), 5 QF (hiz), 6 QG (hiz), 7 QH (hiz), 8 GND (power), 9 QH' (out), 10 ~{SRCLR} (in), 11 SRCLK (in), 12 RCLK (in), 13 ~{OE} (in), 14 SER (in), 15 QA (hiz), 16 VCC (power)

## CD74HC595NSR
designator U?
8-Bit Shift Registers With 3-State Output Registers, NS0016A, LARGE T&R; Generic Part Number: CD74HC595; Manufacturer: Texas Instruments; PartNumber: CD74HC595NSR; Technology Family: HC; VCC(Min)(V): 2; VCC(Max)(V): 6; No. of Outputs: 9; F @ Nom Voltage(Max)(Mhz): 28; ICC @ Nom Voltage(Max)(mA): 0.08; tpd @ Nom Voltage(Max)(ns): 41; Output Drive (IOL/IOH)(Max)(mA): 7.8/-7.8; Input Type: CMOS; 3-State Output: Yes; Rating: Catalog; Bits: 8; DatasheetVersion: SCHS353; PackageReference: NS0016A; Voltage(Nom)(V): 6; Output Type: CMOS; Operating Temperature Range(C): -55 to 125; ComponentLink1Description: Manufacturer URL; ComponentLink1URL: http://www.ti.com/; ComponentLink2Description: Datasheet; ComponentLink2URL: http://www.ti.com/lit/ds/symlink/cd74hc595.pdf; ComponentLink3Description: Package Specification; ComponentLink3URL: http://www.ti.com/lit/ml/msop002a/msop002a.pdf
footprint NS0016A_N (SOIC,16-Leads,Body 10.5x5.6mm,Pitch 1.27mm,IPC Medium Density)
footprint NS0016A_M (SOIC,16-Leads,Body 10.5x5.6mm,Pitch 1.27mm,IPC Low Density)
footprint NS0016A_L (SOIC,16-Leads,Body 10.5x5.6mm,Pitch 1.27mm,IPC High Density)
pins: 1 QB (hiz) "QB Output", 2 QC (hiz) "QC Output", 3 QD (hiz) "QD Output", 4 QE (hiz) "QE Output", 5 QF (hiz) "QF Output", 6 QG (hiz) "QG Output", 7 QH (hiz) "QH Output", 8 GND (power) "Ground Pin", 9 QH' (out) "QH' Output", 10 ~{SRCLR} (in) "S\R\C\L\R\ Input", 11 SRCLK (in) "SRCLK Input", 12 RCLK (in) "RCLK Input", 13 ~{OE} (in) "Output Enable Pin", 14 SER (in) "SER Input", 15 QA (hiz) "QA Output", 16 VCC (power) "Power Pin"

## CD74HC595SM96
designator U?
8-Bit Shift Registers With 3-State Output Registers, DB0016A, LARGE T&R; Generic Part Number: CD74HC595; Manufacturer: Texas Instruments; PartNumber: CD74HC595SM96; Technology Family: HC; VCC(Min)(V): 2; VCC(Max)(V): 6; No. of Outputs: 9; F @ Nom Voltage(Max)(Mhz): 28; ICC @ Nom Voltage(Max)(mA): 0.08; tpd @ Nom Voltage(Max)(ns): 41; Output Drive (IOL/IOH)(Max)(mA): 7.8/-7.8; Input Type: CMOS; 3-State Output: Yes; Rating: Catalog; DatasheetVersion: SCHS353; PackageReference: DB0016A; Voltage(Nom)(V): 6; Output Type: CMOS; Operating Temperature Range(C): -55 to 125; Code_JEDEC: MO-150; ComponentLink1Description: Manufacturer URL; ComponentLink1URL: http://www.ti.com/; ComponentLink2Description: Datasheet; ComponentLink2URL: http://www.ti.com/lit/ds/symlink/cd74hc595.pdf; ComponentLink3Description: Package Specification; ComponentLink3URL: http://www.ti.com/lit/ml/mpds507/mpds507.pdf
footprint DB0016A_N (SOP, 16-Leads, Body 5.6x6.5mm, Pitch 0.65mm, IPC Medium Density)
footprint DB0016A_M (SOP, 16-Leads, Body 5.6x6.5mm, Pitch 0.65mm, IPC Low Density)
footprint DB0016A_L (SOP, 16-Leads, Body 5.6x6.5mm, Pitch 0.65mm, IPC High Density)
pins: 1 QB (hiz), 2 QC (hiz), 3 QD (hiz), 4 QE (hiz), 5 QF (hiz), 6 QG (hiz), 7 QH (hiz), 8 GND (power), 9 QH' (out), 10 ~{SRCLR} (in), 11 SRCLK (in), 12 RCLK (in), 13 ~{OE} (in), 14 SER (in), 15 QA (hiz), 16 VCC (power)

## CD74HC597E
designator U?
High Speed CMOS Logic 8-Bit Shift Register with Input Storage, N0016A, TUBE; Generic Part Number: CD74HC597; Manufacturer: Texas Instruments; PartNumber: CD74HC597E; Technology Family: HC; VCC(Min)(V): 2; Bits: 8; DatasheetVersion: SCHS191C; PackageReference: N0016A; Code_JEDEC: MS-001; ComponentLink1Description: Manufacturer URL; ComponentLink1URL: http://www.ti.com/; ComponentLink2Description: Datasheet; ComponentLink2URL: http://www.ti.com/lit/ds/symlink/cd74hc597.pdf; ComponentLink3Description: Package Specification; ComponentLink3URL: http://www.ti.com/lit/ml/mpdi002c/mpdi002c.pdf
footprint N0016A (DIP, 16-Leads, Body 19.7x6.6mm, Pitch 2.54mm)
pins: 1 D1 (in), 2 D2 (in), 3 D3 (in), 4 D4 (in), 5 D5 (in), 6 D6 (in), 7 D7 (in), 8 GND (power), 9 Q7 (out), 10 ~{MR} (in), 11 SHCP (in), 12 STCP (in), 13 ~{PL} (in), 14 DS (in), 15 D0 (in), 16 VCC (power)

## CD74HC597M
designator U?
High Speed CMOS Logic 8-Bit Shift Register with Input Storage, D0016A, TUBE; Generic Part Number: CD74HC597; Manufacturer: Texas Instruments; PartNumber: CD74HC597M; Technology Family: HC; VCC(Min)(V): 2; VCC(Max)(V): 6; No. of Outputs: 8; F @ Nom Voltage(Max)(Mhz): 28; ICC @ Nom Voltage(Max)(mA): 0.08; tpd @ Nom Voltage(Max)(ns): 37; Output Drive (IOL/IOH)(Max)(mA): 5.2/-5.2; 3-State Output: No; Rating: Military; DatasheetVersion: SCHS191C; PackageReference: D0016A; Voltage(Nom)(V): 6; Input Type: CMOS; Output Type: CMOS; Operating Temperature Range(C): -55 to 125; Bits: 8; Code_JEDEC: MS-012 variation AC; ComponentLink1Description: Manufacturer URL; ComponentLink1URL: http://www.ti.com/; ComponentLink2Description: Datasheet; ComponentLink2URL: http://www.ti.com/lit/ds/symlink/cd74hc597.pdf; ComponentLink3Description: Package Specification; ComponentLink3URL: http://www.ti.com/lit/ml/mpds178g/mpds178g.pdf
footprint D0016A_N (SOIC, 16-Leads, Body 10x4mm, Pitch 1.27mm, IPC Medium Density)
footprint D0016A_M (SOIC, 16-Leads, Body 10x4mm, Pitch 1.27mm, IPC Low Density)
footprint D0016A_L (SOIC, 16-Leads, Body 10x4mm, Pitch 1.27mm, IPC High Density)
pins: 1 D1 (in), 2 D2 (in), 3 D3 (in), 4 D4 (in), 5 D5 (in), 6 D6 (in), 7 D7 (in), 8 GND (power), 9 Q7 (out), 10 ~{MR} (in), 11 SHCP (in), 12 STCP (in), 13 ~{PL} (in), 14 DS (in), 15 D0 (in), 16 VCC (power)

## CD74HC597M96
designator U?
High Speed CMOS Logic 8-Bit Shift Register with Input Storage, D0016A, LARGE T&R; Generic Part Number: CD74HC597; Manufacturer: Texas Instruments; PartNumber: CD74HC597M96; Technology Family: HC; VCC(Min)(V): 2; VCC(Max)(V): 6; No. of Outputs: 8; F @ Nom Voltage(Max)(Mhz): 28; ICC @ Nom Voltage(Max)(mA): 0.08; tpd @ Nom Voltage(Max)(ns): 37; Output Drive (IOL/IOH)(Max)(mA): 5.2/-5.2; 3-State Output: No; Rating: Military; DatasheetVersion: SCHS191C; PackageReference: D0016A; Voltage(Nom)(V): 6; Input Type: CMOS; Output Type: CMOS; Operating Temperature Range(C): -55 to 125; Bits: 8; Code_JEDEC: MS-012 variation AC; ComponentLink1Description: Manufacturer URL; ComponentLink1URL: http://www.ti.com/; ComponentLink2Description: Datasheet; ComponentLink2URL: http://www.ti.com/lit/ds/symlink/cd74hc597.pdf; ComponentLink3Description: Package Specification; ComponentLink3URL: http://www.ti.com/lit/ml/mpds178g/mpds178g.pdf
footprint D0016A_N (SOIC, 16-Leads, Body 10x4mm, Pitch 1.27mm, IPC Medium Density)
footprint D0016A_M (SOIC, 16-Leads, Body 10x4mm, Pitch 1.27mm, IPC Low Density)
footprint D0016A_L (SOIC, 16-Leads, Body 10x4mm, Pitch 1.27mm, IPC High Density)
pins: 1 D1 (in), 2 D2 (in), 3 D3 (in), 4 D4 (in), 5 D5 (in), 6 D6 (in), 7 D7 (in), 8 GND (power), 9 Q7 (out), 10 ~{MR} (in), 11 SHCP (in), 12 STCP (in), 13 ~{PL} (in), 14 DS (in), 15 D0 (in), 16 VCC (power)

## CD74HC597MT
designator U?
High Speed CMOS Logic 8-Bit Shift Register with Input Storage, D0016A, SMALL T&R; Generic Part Number: CD74HC597; Manufacturer: Texas Instruments; PartNumber: CD74HC597MT; Technology Family: HC; VCC(Min)(V): 2; Bits: 8; DatasheetVersion: SCHS191C; PackageReference: D0016A; Code_JEDEC: MS-012 variation AC; ComponentLink1Description: Manufacturer URL; ComponentLink1URL: http://www.ti.com/; ComponentLink2Description: Datasheet; ComponentLink2URL: http://www.ti.com/lit/ds/symlink/cd74hc597.pdf; ComponentLink3Description: Package Specification; ComponentLink3URL: http://www.ti.com/lit/ml/mpds178g/mpds178g.pdf
footprint D0016A_N (SOIC, 16-Leads, Body 10x4mm, Pitch 1.27mm, IPC Medium Density)
footprint D0016A_M (SOIC, 16-Leads, Body 10x4mm, Pitch 1.27mm, IPC Low Density)
footprint D0016A_L (SOIC, 16-Leads, Body 10x4mm, Pitch 1.27mm, IPC High Density)
pins: 1 D1 (in), 2 D2 (in), 3 D3 (in), 4 D4 (in), 5 D5 (in), 6 D6 (in), 7 D7 (in), 8 GND (power), 9 Q7 (out), 10 ~{MR} (in), 11 SHCP (in), 12 STCP (in), 13 ~{PL} (in), 14 DS (in), 15 D0 (in), 16 VCC (power)

## CD74HC597NSR
designator U?
High Speed CMOS Logic 8-Bit Shift Register with Input Storage, NS0016A, LARGE T&R; Generic Part Number: CD74HC597; Manufacturer: Texas Instruments; PartNumber: CD74HC597NSR; Technology Family: HC; VCC(Min)(V): 2; Bits: 8; DatasheetVersion: SCHS191C; PackageReference: NS0016A; ComponentLink1Description: Manufacturer URL; ComponentLink1URL: http://www.ti.com/; ComponentLink2Description: Datasheet; ComponentLink2URL: http://www.ti.com/lit/ds/symlink/cd74hc597.pdf; ComponentLink3Description: Package Specification; ComponentLink3URL: http://www.ti.com/lit/ml/msop002a/msop002a.pdf
footprint NS0016A_N (SOIC,16-Leads,Body 10.5x5.6mm,Pitch 1.27mm,IPC Medium Density)
footprint NS0016A_M (SOIC,16-Leads,Body 10.5x5.6mm,Pitch 1.27mm,IPC Low Density)
footprint NS0016A_L (SOIC,16-Leads,Body 10.5x5.6mm,Pitch 1.27mm,IPC High Density)
pins: 1 D1 (in), 2 D2 (in), 3 D3 (in), 4 D4 (in), 5 D5 (in), 6 D6 (in), 7 D7 (in), 8 GND (power), 9 Q7 (out), 10 ~{MR} (in), 11 SHCP (in), 12 STCP (in), 13 ~{PL} (in), 14 DS (in), 15 D0 (in), 16 VCC (power)

## CD74HC4015E
designator U?
High Speed CMOS Logic Dual 4-Stage Static Shift Registers, N0016A, TUBE; Generic Part Number: CD74HC4015; Manufacturer: Texas Instruments; PartNumber: CD74HC4015E; Technology Family: HC; VCC(Min)(V): 2; VCC(Max)(V): 6; F @ Nom Voltage(Max)(Mhz): 28; ICC @ Nom Voltage(Max)(mA): 0.08; tpd @ Nom Voltage(Max)(ns): 37; Output Drive (IOL/IOH)(Max)(mA): 5.2/-5.2; 3-State Output: No; Rating: Catalog; Bits: 8; DatasheetVersion: SCHS198C; PackageReference: N0016A; Voltage(Nom)(V): 6; Input Type: CMOS; Output Type: CMOS; Operating Temperature Range(C): -55 to 125; Code_JEDEC: MS-001; ComponentLink1Description: Manufacturer URL; ComponentLink1URL: http://www.ti.com/; ComponentLink2Description: Datasheet; ComponentLink2URL: http://www.ti.com/lit/ds/symlink/cd74hc4015.pdf; ComponentLink3Description: Package Specification; ComponentLink3URL: http://www.ti.com/lit/ml/mpdi002c/mpdi002c.pdf
footprint N0016A (DIP, 16-Leads, Body 19.7x6.6mm, Pitch 2.54mm)
part A pins: 3 1Q2 (out), 4 1Q1 (out), 5 1Q0 (out), 6 1MR (in), 7 1D (in), 9 1CP (in), 10 1Q3 (out)
part B pins: 1 2CP (in), 2 2Q3 (out), 11 2Q2 (out), 12 2Q1 (out), 13 2Q0 (out), 14 2MR (in), 15 2D (in)
part C pins: 8 GND (power), 16 VCC (power)

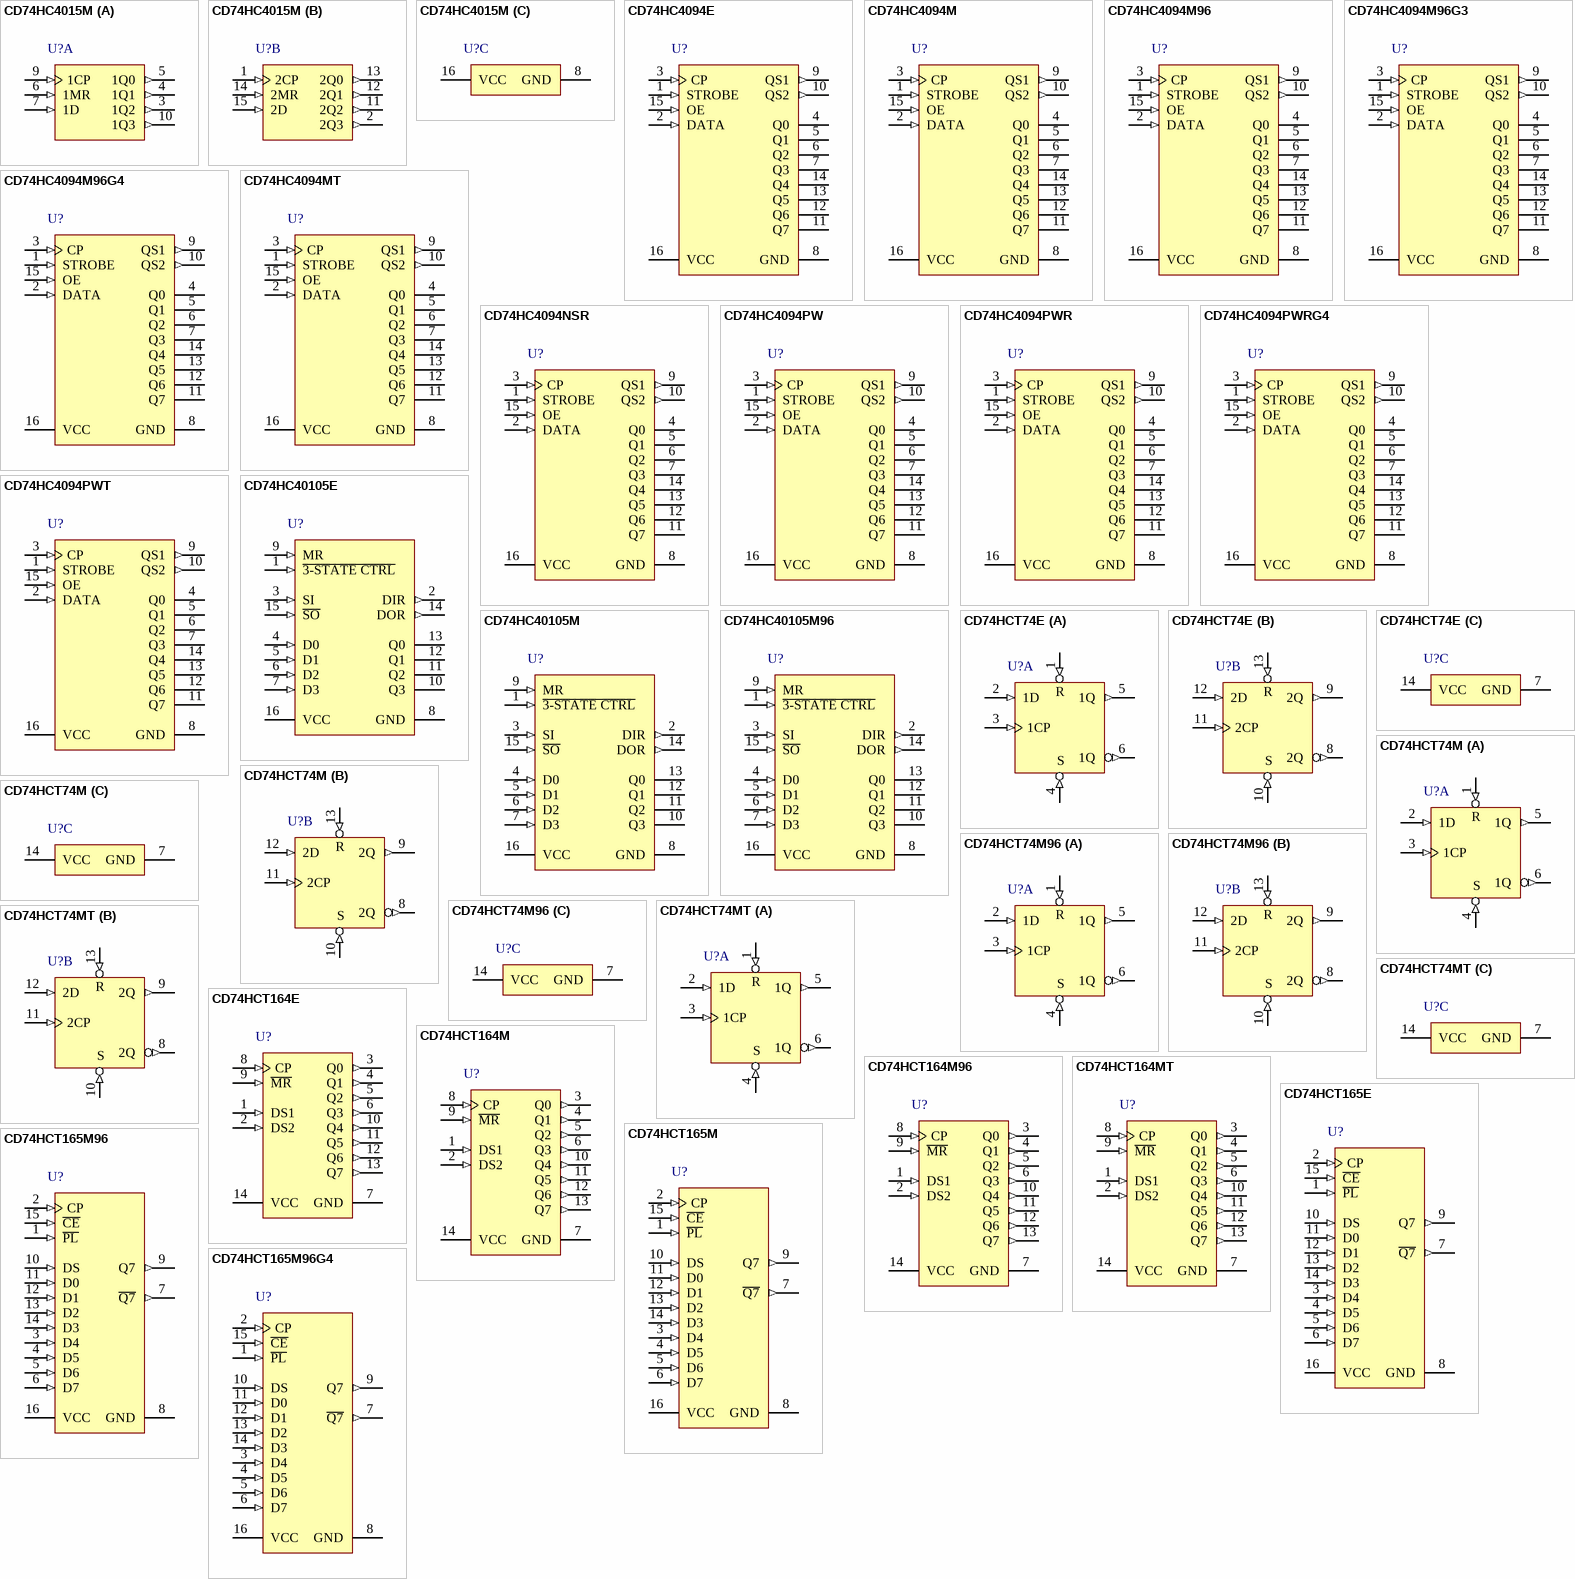
[diagram p16: symbols CD74HC4015M to CD74HCT165M96G4]

## CD74HC4015M
designator U?
High Speed CMOS Logic Dual 4-Stage Static Shift Registers, D0016A, TUBE; Generic Part Number: CD74HC4015; Manufacturer: Texas Instruments; PartNumber: CD74HC4015M; Technology Family: HC; VCC(Min)(V): 2; VCC(Max)(V): 6; F @ Nom Voltage(Max)(Mhz): 28; ICC @ Nom Voltage(Max)(mA): 0.08; tpd @ Nom Voltage(Max)(ns): 37; Output Drive (IOL/IOH)(Max)(mA): 5.2/-5.2; 3-State Output: No; Rating: Catalog; DatasheetVersion: SCHS198C; PackageReference: D0016A; Voltage(Nom)(V): 6; Input Type: CMOS; Output Type: CMOS; Operating Temperature Range(C): -55 to 125; Code_JEDEC: MS-012 variation AC; ComponentLink1Description: Manufacturer URL; ComponentLink1URL: http://www.ti.com/; ComponentLink2Description: Datasheet; ComponentLink2URL: http://www.ti.com/lit/ds/symlink/cd74hc4015.pdf; ComponentLink3Description: Package Specification; ComponentLink3URL: http://www.ti.com/lit/ml/mpds178g/mpds178g.pdf
footprint D0016A_N (SOIC, 16-Leads, Body 10x4mm, Pitch 1.27mm, IPC Medium Density)
footprint D0016A_M (SOIC, 16-Leads, Body 10x4mm, Pitch 1.27mm, IPC Low Density)
footprint D0016A_L (SOIC, 16-Leads, Body 10x4mm, Pitch 1.27mm, IPC High Density)
part A pins: 3 1Q2 (out), 4 1Q1 (out), 5 1Q0 (out), 6 1MR (in), 7 1D (in), 9 1CP (in), 10 1Q3 (out)
part B pins: 1 2CP (in), 2 2Q3 (out), 11 2Q2 (out), 12 2Q1 (out), 13 2Q0 (out), 14 2MR (in), 15 2D (in)
part C pins: 8 GND (power), 16 VCC (power)

## CD74HC4094E
designator U?
High Speed CMOS Logic 8-Stage Shift-and-Store Bus Register with 3-Stage Outputs, N0016A, TUBE; Generic Part Number: CD74HC4094; Manufacturer: Texas Instruments; PartNumber: CD74HC4094E; Technology Family: HC; VCC(Min)(V): 2; VCC(Max)(V): 6; F @ Nom Voltage(Max)(Mhz): 28; ICC @ Nom Voltage(Max)(mA): 0.08; tpd @ Nom Voltage(Max)(ns): 33; Output Drive (IOL/IOH)(Max)(mA): 5.2/-5.2; 3-State Output: Yes; Rating: Catalog; Bits: 8; DatasheetVersion: SCHS211E; PackageReference: N0016A; Voltage(Nom)(V): 6; Input Type: CMOS; Output Type: CMOS; Operating Temperature Range(C): -55 to 125; Code_JEDEC: MS-001; ComponentLink1Description: Manufacturer URL; ComponentLink1URL: http://www.ti.com/; ComponentLink2Description: Datasheet; ComponentLink2URL: http://www.ti.com/lit/ds/symlink/cd74hc4094.pdf; ComponentLink3Description: Package Specification; ComponentLink3URL: http://www.ti.com/lit/ml/mpdi002c/mpdi002c.pdf
footprint N0016A (DIP, 16-Leads, Body 19.7x6.6mm, Pitch 2.54mm)
pins: 1 STROBE (in), 2 DATA (in), 3 CP (in), 4 Q0 (hiz), 5 Q1 (hiz), 6 Q2 (hiz), 7 Q3 (hiz), 8 GND (power), 9 QS1 (out), 10 QS2 (out), 11 Q7 (hiz), 12 Q6 (hiz), 13 Q5 (hiz), 14 Q4 (hiz), 15 OE (in), 16 VCC (power)

## CD74HC4094M
designator U?
High Speed CMOS Logic 8-Stage Shift-and-Store Bus Register with 3-Stage Outputs, D0016A, TUBE; Generic Part Number: CD74HC4094; Manufacturer: Texas Instruments; PartNumber: CD74HC4094M; Technology Family: HC; VCC(Min)(V): 2; VCC(Max)(V): 6; F @ Nom Voltage(Max)(Mhz): 28; ICC @ Nom Voltage(Max)(mA): 0.08; tpd @ Nom Voltage(Max)(ns): 33; Output Drive (IOL/IOH)(Max)(mA): 5.2/-5.2; 3-State Output: Yes; Rating: Catalog; Bits: 8; DatasheetVersion: SCHS211E; PackageReference: D0016A; Voltage(Nom)(V): 6; Input Type: CMOS; Output Type: CMOS; Operating Temperature Range(C): -55 to 125; Code_JEDEC: MS-012 variation AC; ComponentLink1Description: Manufacturer URL; ComponentLink1URL: http://www.ti.com/; ComponentLink2Description: Datasheet; ComponentLink2URL: http://www.ti.com/lit/ds/symlink/cd74hc4094.pdf; ComponentLink3Description: Package Specification; ComponentLink3URL: http://www.ti.com/lit/ml/mpds178g/mpds178g.pdf
footprint D0016A_N (SOIC, 16-Leads, Body 10x4mm, Pitch 1.27mm, IPC Medium Density)
footprint D0016A_M (SOIC, 16-Leads, Body 10x4mm, Pitch 1.27mm, IPC Low Density)
footprint D0016A_L (SOIC, 16-Leads, Body 10x4mm, Pitch 1.27mm, IPC High Density)
pins: 1 STROBE (in), 2 DATA (in), 3 CP (in), 4 Q0 (hiz), 5 Q1 (hiz), 6 Q2 (hiz), 7 Q3 (hiz), 8 GND (power), 9 QS1 (out), 10 QS2 (out), 11 Q7 (hiz), 12 Q6 (hiz), 13 Q5 (hiz), 14 Q4 (hiz), 15 OE (in), 16 VCC (power)